# Altium footprint library PcbLibBGA_Demo.PcbLib: 8 footprints
Each footprint in its own frame and in the unit in brackets; x right, y up, seen from the top. Pads: shape width x height; smd on the part's side, far side on the other; paste and mask are expansions set on the pad; w line width, h text height; cw(c..) or ccw(c..) is an arc to the next point about the centre after c.
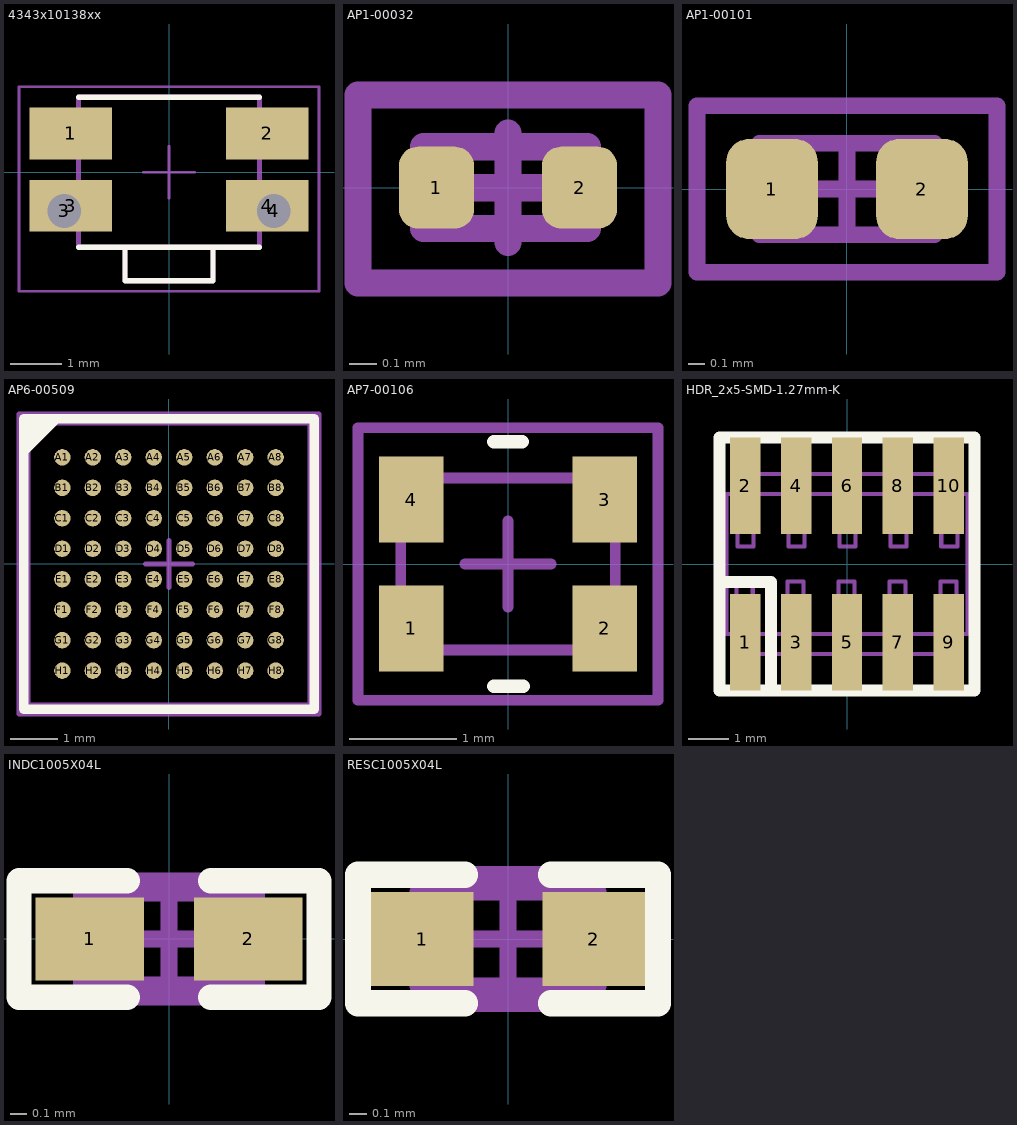
[diagram p0: the footprints below, top view; thin cyan lines are the x and y axes]

## 4343x10138xx [mm] "WS-TASU 3.5x2.9 mm SMD side push"
height 1.35
pads (6):
  rect 1.6x1 smd: 1(-1.9,0.75) 2(1.9,0.75) 3(-1.9,-0.65) 4(1.9,-0.65)
  round 0.65 hole 0.65: 3(-2.025,-0.75) 4(2.025,-0.75)
Top Overlay:
  lines w0.1: -1.75,-1.45 1.75,-1.45 ; -1.75,1.45 1.75,1.45 ; -0.85,-1.45 -0.85,-2.1 0.85,-2.1 0.85,-1.45
Mechanical 13:
  lines w0.1: -0.85,-1.45 -0.85,-2.1 0.85,-2.1 0.85,-1.45 ; -1.75,-1.45 1.75,-1.45 1.75,1.45 -1.75,1.45 -1.75,-1.45
Mechanical 15:
  lines w0.05: -0.5,0 0.5,0 ; 0,-0.5 0,0.5 ; -2.9,-2.3 2.9,-2.3 2.9,1.65 -2.9,1.65 -2.9,-2.3
3D body "434331013822.stp": height 1.35, standoff -0.6, extent -2.35,-2.1 2.35,1.45

## AP1-00032 [mm]
height 7.92
pads (2):
  rrect50% 0.275x0.3 smd mask+0.064: 1(-0.262,0) 2(0.262,0)
Mechanical 3:
  text ".Designator" at 0.215,0.072 h0.25
Mechanical 13:
  lines w0.1: -0.31,-0.15 -0.31,0.15 0.29,0.15 0.29,-0.15 -0.31,-0.15
Mechanical 15:
  lines w0.1: -0.2,0 0.2,0 ; 0,-0.2 0,0.2 ; -0.55,-0.35 -0.55,0.34 0.55,0.34 0.55,-0.35 -0.55,-0.35
3D body "User Library-cap_0201.STEP": height 0.3, standoff 0, extent -0.31,-0.15 0.29,0.15

## AP1-00101 [mm]
height 7.92
pads (2):
  rrect50% 0.55x0.6 smd: 1(-0.45,0) 2(0.45,0)
Mechanical 2:
  text ".Designator" at -0.543,-0.143 h0.51
Mechanical 13:
  lines w0.1: -0.525,-0.275 -0.525,0.275 0.525,0.275 0.525,-0.275 -0.525,-0.275
Mechanical 15:
  lines w0.1: -0.275,0 0.275,0 ; 0,-0.275 0,0.275 ; -0.9,-0.5 0.9,-0.5 0.9,0.5 -0.9,0.5 -0.9,-0.5
3D body "0402 SMD Capacitor.step": height 0.2, standoff 0, extent -0.5,-0.3 0.5,0.3

## AP6-00509 [mm]
height 7.92
pads (64):
  round 0.35 smd: A1(-2.275,2.275) A2(-1.625,2.275) A3(-0.975,2.275) A4(-0.325,2.275) A5(0.325,2.275) A6(0.975,2.275) A7(1.625,2.275) A8(2.275,2.275) B1(-2.275,1.625) B2(-1.625,1.625) B3(-0.975,1.625) B4(-0.325,1.625) B5(0.325,1.625) B6(0.975,1.625) B7(1.625,1.625) B8(2.275,1.625) C1(-2.275,0.975) C2(-1.625,0.975) C3(-0.975,0.975) C4(-0.325,0.975) C5(0.325,0.975) C6(0.975,0.975) C7(1.625,0.975) C8(2.275,0.975) D1(-2.275,0.325) D2(-1.625,0.325) D3(-0.975,0.325) D4(-0.325,0.325) D5(0.325,0.325) D6(0.975,0.325) D7(1.625,0.325) D8(2.275,0.325) E1(-2.275,-0.325) E2(-1.625,-0.325) E3(-0.975,-0.325) E4(-0.325,-0.325) E5(0.325,-0.325) E6(0.975,-0.325) E7(1.625,-0.325) E8(2.275,-0.325) F1(-2.275,-0.975) F2(-1.625,-0.975) F3(-0.975,-0.975) F4(-0.325,-0.975) F5(0.325,-0.975) F6(0.975,-0.975) F7(1.625,-0.975) F8(2.275,-0.975) G1(-2.275,-1.625) G2(-1.625,-1.625) G3(-0.975,-1.625) G4(-0.325,-1.625) G5(0.325,-1.625) G6(0.975,-1.625) G7(1.625,-1.625) G8(2.275,-1.625) H1(-2.275,-2.275) H2(-1.625,-2.275) H3(-0.975,-2.275) H4(-0.325,-2.275) H5(0.325,-2.275) H6(0.975,-2.275) H7(1.625,-2.275) H8(2.275,-2.275)
Top Overlay:
  region: -2.263,3.1 -3.1,2.263 -3.1,3.1
  lines w0.2: -3.1,-3.1 3.1,-3.1 3.1,3.1 -3.1,3.1 -3.1,-3.1
  text "." at -3.683,2.667 h1
Mechanical 2:
  text ".Designator" at -0.726,-0.042 h0.51
Mechanical 11:
  lines w0.1: -3,-3 3,-3 3,3 -3,3 -3,-3
  text "A1" at -2.794,2.286 h0.5
  text ".Designator" at -2.275,-0.325 h1
Mechanical 15:
  lines w0.1: -0.5,0 0.5,0 ; 0,-0.5 0,0.5 ; -3.2,-3.2 3.2,-3.2 3.2,3.2 -3.2,3.2 -3.2,-3.2
3D body "BGA100P9X9-81A.step": height 1.2, standoff 0, extent -3,-3 3,3

## AP7-00106 [mm]
height 7.92
pads (4):
  rect 0.6x0.8 smd: 1(-0.9,-0.6) 2(0.9,-0.6) 3(0.9,0.6) 4(-0.9,0.6)
Top Overlay:
  lines w0.127: -0.13,-1.14 0.14,-1.14 ; -0.13,1.14 0.13,1.14
  text "." at -1.067,-0.102 h0.3
Mechanical 2:
  text ".Designator" at -0.222,0.458 h0.51
Mechanical 11:
  lines w0.1: -1,-0.8 -1,0.8 1,0.8 1,-0.8 -1,-0.8
  text ".Designator" at -0.533,-0.152 h0.5
Mechanical 15:
  lines w0.1: -0.4,0 0.4,0 ; 0,-0.4 0,0.4 ; -1.397,-1.27 1.397,-1.27 1.397,1.27 -1.397,1.27 -1.397,-1.27
3D body "ABM11.step": height 0.59, standoff 0, extent -1,-0.8 1,0.8

## HDR_2x5-SMD-1.27mm-K [mm]
height 7.92
pads (10):
  rect 0.76x2.4 smd: 1(-2.54,-1.95) 2(-2.54,1.95) 3(-1.27,-1.95) 4(-1.27,1.95) 5(0,-1.95) 6(0,1.95) 7(1.27,-1.95) 8(1.27,1.95) 9(2.54,-1.95) 10(2.54,1.95)
Top Overlay:
  lines w0.3: -3.175,-0.45 -1.9,-0.45 -1.9,-3.15 ; -3.175,-3.15 3.175,-3.15 3.175,3.15 -3.175,3.15 -3.175,-3.15
Mechanical 7:
  lines w0.1: -2.74,-1.75 -2.74,-2.459 ccw(c-2.54,-2.459) -2.34,-2.459 -2.34,-2.25 ; -2.74,1.75 -2.74,2.459 cw(c-2.54,2.459) -2.34,2.459 -2.34,2.25 ; -2.5,-1.75 -2.5,-2.25 -1.25,-2.25 ; -2.5,1.75 -2.5,2.25 2.5,2.25 2.5,1.75 ; -1.47,-2.25 -1.47,-2.459 ccw(c-1.27,-2.459) -1.07,-2.459 -1.07,-2.25 ; -1.47,2.25 -1.47,2.459 cw(c-1.27,2.459) -1.07,2.459 -1.07,2.25 ; -1.25,-1.75 -1.25,-2.25 ; -0.2,-2.25 -0.2,-2.459 ccw(c0,-2.459) 0.2,-2.459 0.2,-2.25 ; -0.2,2.25 -0.2,2.459 cw(c0,2.459) 0.2,2.459 0.2,2.25 ; 1.07,-2.25 1.07,-2.459 ccw(c1.27,-2.459) 1.47,-2.459 1.47,-2.25 ; 1.07,2.25 1.07,2.459 cw(c1.27,2.459) 1.47,2.459 1.47,2.25 ; 1.25,-1.75 1.25,-2.25 ; 2.34,-2.25 2.34,-2.459 ccw(c2.54,-2.459) 2.74,-2.459 2.74,-1.75 ; 2.34,2.25 2.34,2.459 cw(c2.54,2.459) 2.74,2.459 2.74,1.75 ; 2.5,-1.75 2.5,-2.25 1.25,-2.25 ; -1.25,-2.25 1.25,-2.25 ; -3,-1.75 3,-1.75 3,1.75 -3,1.75 -3,-1.75 ; -2.75,-0.835 -2.35,-0.835 -2.35,-0.435 -2.75,-0.435 -2.75,-0.835 ; -2.73,0.435 -2.33,0.435 -2.33,0.835 -2.73,0.835 -2.73,0.435 ; -1.48,-0.835 -1.08,-0.835 -1.08,-0.435 -1.48,-0.435 -1.48,-0.835 ; -1.46,0.435 -1.06,0.435 -1.06,0.835 -1.46,0.835 -1.46,0.435 ; -0.21,-0.835 0.19,-0.835 0.19,-0.435 -0.21,-0.435 -0.21,-0.835 ; -0.19,0.435 0.21,0.435 0.21,0.835 -0.19,0.835 -0.19,0.435 ; 1.06,-0.835 1.46,-0.835 1.46,-0.435 1.06,-0.435 1.06,-0.835 ; 1.08,0.435 1.48,0.435 1.48,0.835 1.08,0.835 1.08,0.435 ; 2.33,-0.835 2.73,-0.835 2.73,-0.435 2.33,-0.435 2.33,-0.835 ; 2.35,0.435 2.75,0.435 2.75,0.835 2.35,0.835 2.35,0.435
  text ".Designator" at 0.356,0.152 h0.3
3D body "Samtec-FTSH-105-01-F-DV-K.step": height 6.11, standoff -0.01, extent -3.137,-2.921 3.137,2.921

## INDC1005X04L [mm] "Chip Inductor, 2-Leads, Body 1.0x0.5mm, IPC High Density"
height 0.4
pads (2):
  rect 0.65x0.5 smd: 1(-0.475,0) 2(0.475,0)
Top Overlay:
  lines w0.152: -0.25,-0.35 -0.9,-0.35 -0.9,0.35 -0.25,0.35 ; 0.25,-0.35 0.9,-0.35 0.9,0.35 0.25,0.35
Mechanical 7:
  lines w0.1: -0.525,-0.275 0.525,-0.275 0.525,0.275 -0.525,0.275 -0.525,-0.275
  text ".Designator" at -0.432,-0.152 h0.3
Mechanical 15:
  lines w0.1: -0.275,0 0.275,0 ; 0,-0.275 0,0.275 ; -0.9,-0.35 0.9,-0.35 0.9,0.35 -0.9,0.35 -0.9,-0.35
3D body "User Library-Chip Inductor 0402.step": height 0.5, standoff 0, extent -0.5,-0.3 0.5,0.3

## RESC1005X04L [mm]
height 1.7
pads (2):
  rect 0.6x0.55 smd: 1(-0.5,0) 2(0.5,0)
Top Overlay:
  lines w0.152: -0.25,-0.375 -0.875,-0.375 -0.875,0.375 -0.25,0.375 ; 0.25,-0.375 0.875,-0.375 0.875,0.375 0.25,0.375
Mechanical 7:
  lines w0.1: -0.525,-0.275 0.525,-0.275 0.525,0.275 -0.525,0.275 -0.525,-0.275
  text ".Designator" at -0.432,-0.152 h0.3
Mechanical 15:
  lines w0.1: -0.275,0 0.275,0 ; 0,-0.275 0,0.275 ; -0.875,-0.375 -0.875,0.375 0.875,0.375 0.875,-0.375 -0.875,-0.375
3D body "User Library-res0402-1.step": height 0.3, standoff 0, extent -0.5,-0.25 0.5,0.25